# Altium schematic symbol library kmilo17pet-NSC_MiscPower.SchLib: 1552 symbols (part 13 of 43)
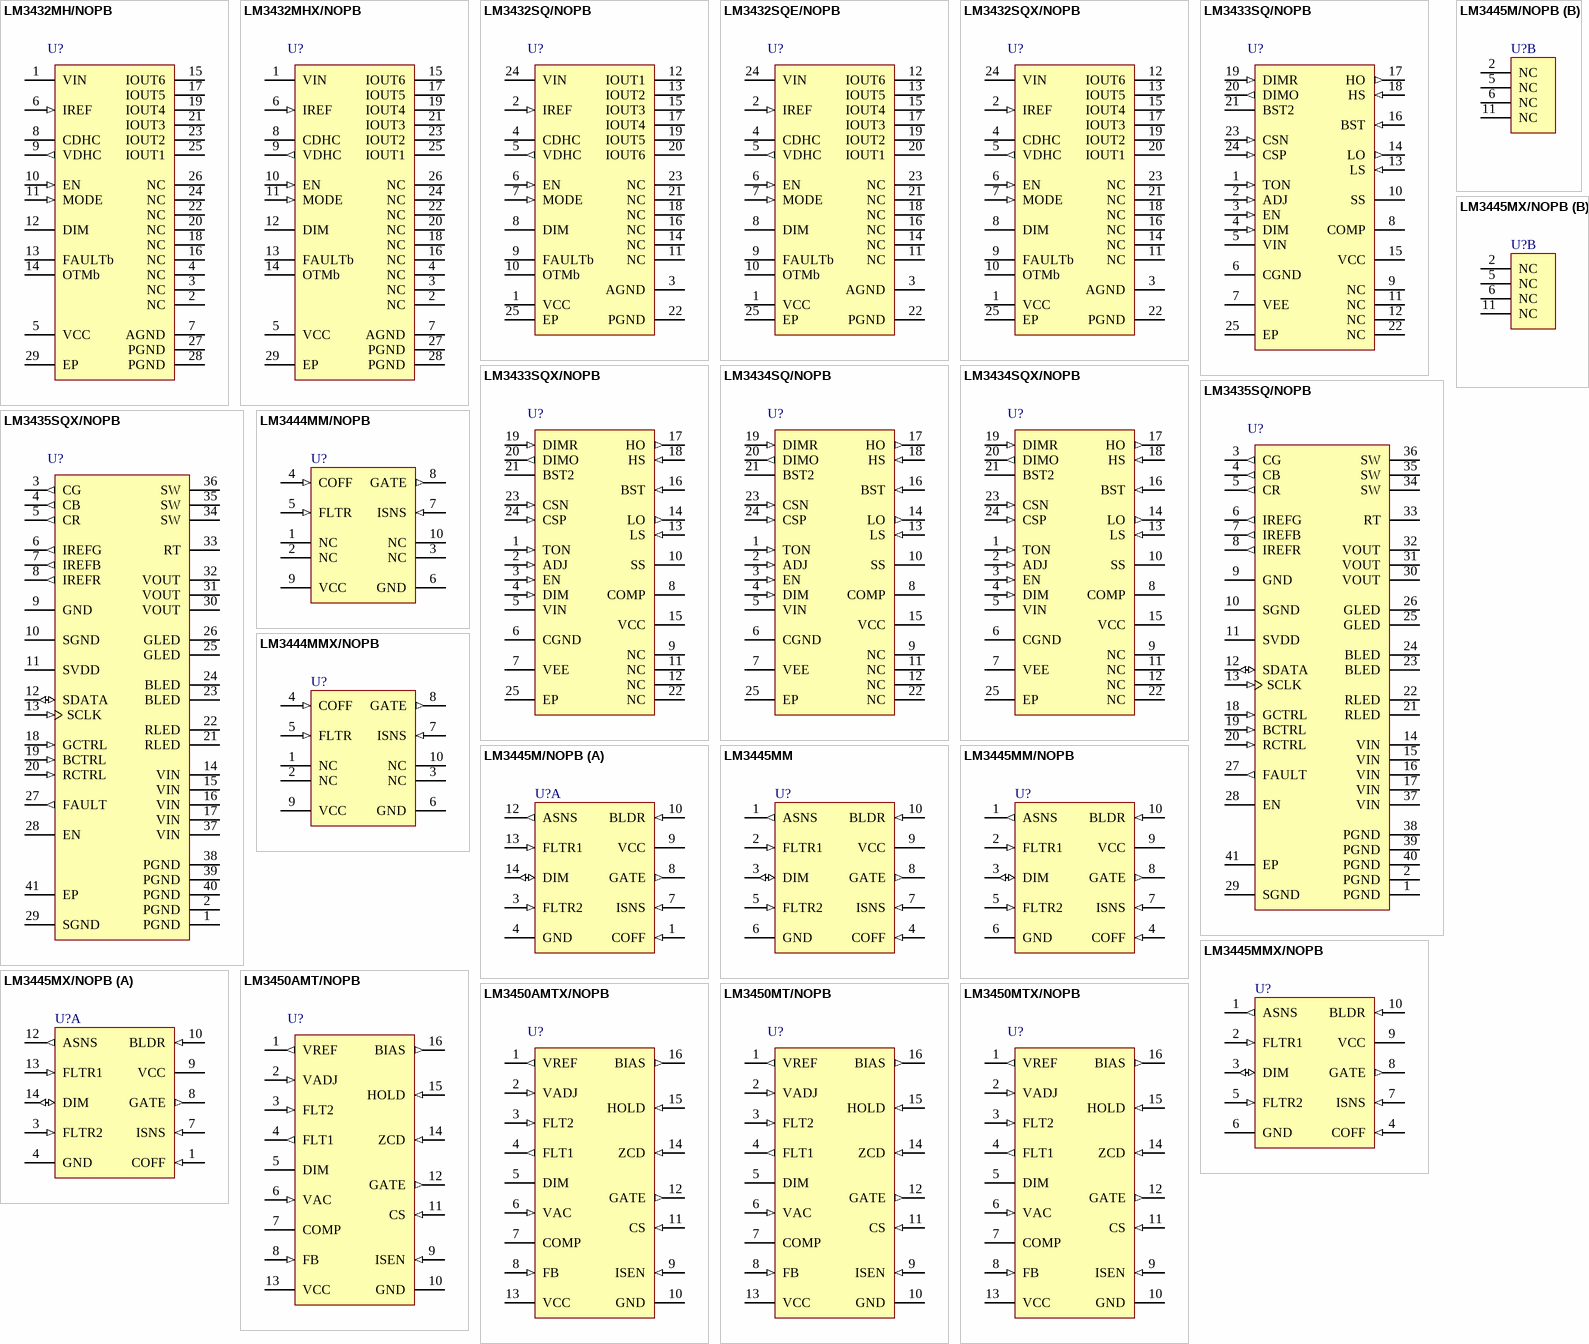
[diagram p69: symbols LM3432MH/NOPB to LM3450MTX/NOPB]

## LM3450AMTX/NOPB
designator U?
LED Drivers with Active Power Factor Correction and Phase Dimming Decoder, 16-pin TSSOP, Pb-Free, 2500 Reel; PartNumber: LM3450AMTX/NOPB; Manufacturer: National Semiconductor; PackageTopMarking: NSUZXYTT*LM3450*AMT; PowerWise: N; CompType: MiscPower; High-Reliability: Y; DatasheetVersion: Jun-2011; PackageVersion: revD, Jun-2003; PackageReference: MTC16; PackageDescription: Molded TSSOP, Jedec, 5 x 4.4 x 0.9mm Body, 16 Lead, 0.65mm Pitch; RoHS: Y; PinCount: 16; Code_JEDEC: MO-153-AB; ComponentLink1Description: Manufacturer URL; ComponentLink1URL: http://www.national.com/; ComponentLink2Description: LM3450 Datasheet; ComponentLink2URL: http://www.national.com/ds/LM/LM3450.pdf; ComponentLink3Description: LM3450 Web Page; ComponentLink3URL: http://www.national.com/pf/LM/LM3450.html; ComponentLink4Description: MTC16 Package Page; ComponentLink4URL: http://www.national.com/packaging/folders/mtc16.html
footprint MTC16_N (TSOP, 16-Leads, Body 5x4.4mm, Pitch 0.65mm, IPC Medium Density)
footprint MTC16_L (TSOP, 16-Leads, Body 5x4.4mm, Pitch 0.65mm, IPC High Density)
footprint MTC16_M (TSOP, 16-Leads, Body 5x4.4mm, Pitch 0.65mm, IPC Low Density)
pins: 1 VREF (out), 2 VADJ (in), 3 FLT2 (in), 4 FLT1 (out), 5 DIM (oc), 6 VAC (in), 7 COMP, 8 FB (in), 9 ISEN (in), 10 GND (power), 11 CS (in), 12 GATE (out), 13 VCC (power), 14 ZCD (in), 15 HOLD (in), 16 BIAS (out)

## LM3450MT/NOPB
designator U?
LED Driver with Active Power Factor Correction and Phase Dimming Decoder, 16-pin TSSOP, 92 Rail; PartNumber: LM3450MT/NOPB; Manufacturer: National Semiconductor; PackageTopMarking: NSUZXYTT*LM3450*MT; PowerWise: Y; CompType: MiscPower; DatasheetVersion: Jun-2011; PackageVersion: revD, Jun-2003; PackageReference: MTC16; PackageDescription: Molded TSSOP, Jedec, 5 x 4.4 x 0.9mm Body, 16 Lead, 0.65mm Pitch; RoHS: Y; PinCount: 16; High-Reliability: Y; Code_JEDEC: MO-153-AB; ComponentLink1Description: Manufacturer URL; ComponentLink1URL: http://www.national.com/; ComponentLink2Description: LM3450 Datasheet; ComponentLink2URL: http://www.national.com/ds/LM/LM3450.pdf; ComponentLink3Description: LM3450 Web Page; ComponentLink3URL: http://www.national.com/pf/LM/LM3450.html; ComponentLink4Description: MTC16 Package Page; ComponentLink4URL: http://www.national.com/packaging/folders/mtc16.html
footprint MTC16_N (TSOP, 16-Leads, Body 5x4.4mm, Pitch 0.65mm, IPC Medium Density)
footprint MTC16_L (TSOP, 16-Leads, Body 5x4.4mm, Pitch 0.65mm, IPC High Density)
footprint MTC16_M (TSOP, 16-Leads, Body 5x4.4mm, Pitch 0.65mm, IPC Low Density)
pins: 1 VREF (out), 2 VADJ (in), 3 FLT2 (in), 4 FLT1 (out), 5 DIM (oc), 6 VAC (in), 7 COMP, 8 FB (in), 9 ISEN (in), 10 GND (power), 11 CS (in), 12 GATE (out), 13 VCC (power), 14 ZCD (in), 15 HOLD (in), 16 BIAS (out)

## LM3450MTX/NOPB
designator U?
LED Driver with Active Power Factor Correction and Phase Dimming Decoder, 16-pin TSSOP, 2500 Reel; PartNumber: LM3450MTX/NOPB; Manufacturer: National Semiconductor; PackageTopMarking: NSUZXYTT*LM3450*MT; PowerWise: Y; CompType: MiscPower; DatasheetVersion: Jun-2011; PackageVersion: revD, Jun-2003; PackageReference: MTC16; PackageDescription: Molded TSSOP, Jedec, 5 x 4.4 x 0.9mm Body, 16 Lead, 0.65mm Pitch; RoHS: Y; PinCount: 16; High-Reliability: Y; Code_JEDEC: MO-153-AB; ComponentLink1Description: Manufacturer URL; ComponentLink1URL: http://www.national.com/; ComponentLink2Description: LM3450 Datasheet; ComponentLink2URL: http://www.national.com/ds/LM/LM3450.pdf; ComponentLink3Description: LM3450 Web Page; ComponentLink3URL: http://www.national.com/pf/LM/LM3450.html; ComponentLink4Description: MTC16 Package Page; ComponentLink4URL: http://www.national.com/packaging/folders/mtc16.html
footprint MTC16_N (TSOP, 16-Leads, Body 5x4.4mm, Pitch 0.65mm, IPC Medium Density)
footprint MTC16_L (TSOP, 16-Leads, Body 5x4.4mm, Pitch 0.65mm, IPC High Density)
footprint MTC16_M (TSOP, 16-Leads, Body 5x4.4mm, Pitch 0.65mm, IPC Low Density)
pins: 1 VREF (out), 2 VADJ (in), 3 FLT2 (in), 4 FLT1 (out), 5 DIM (oc), 6 VAC (in), 7 COMP, 8 FB (in), 9 ISEN (in), 10 GND (power), 11 CS (in), 12 GATE (out), 13 VCC (power), 14 ZCD (in), 15 HOLD (in), 16 BIAS (out)

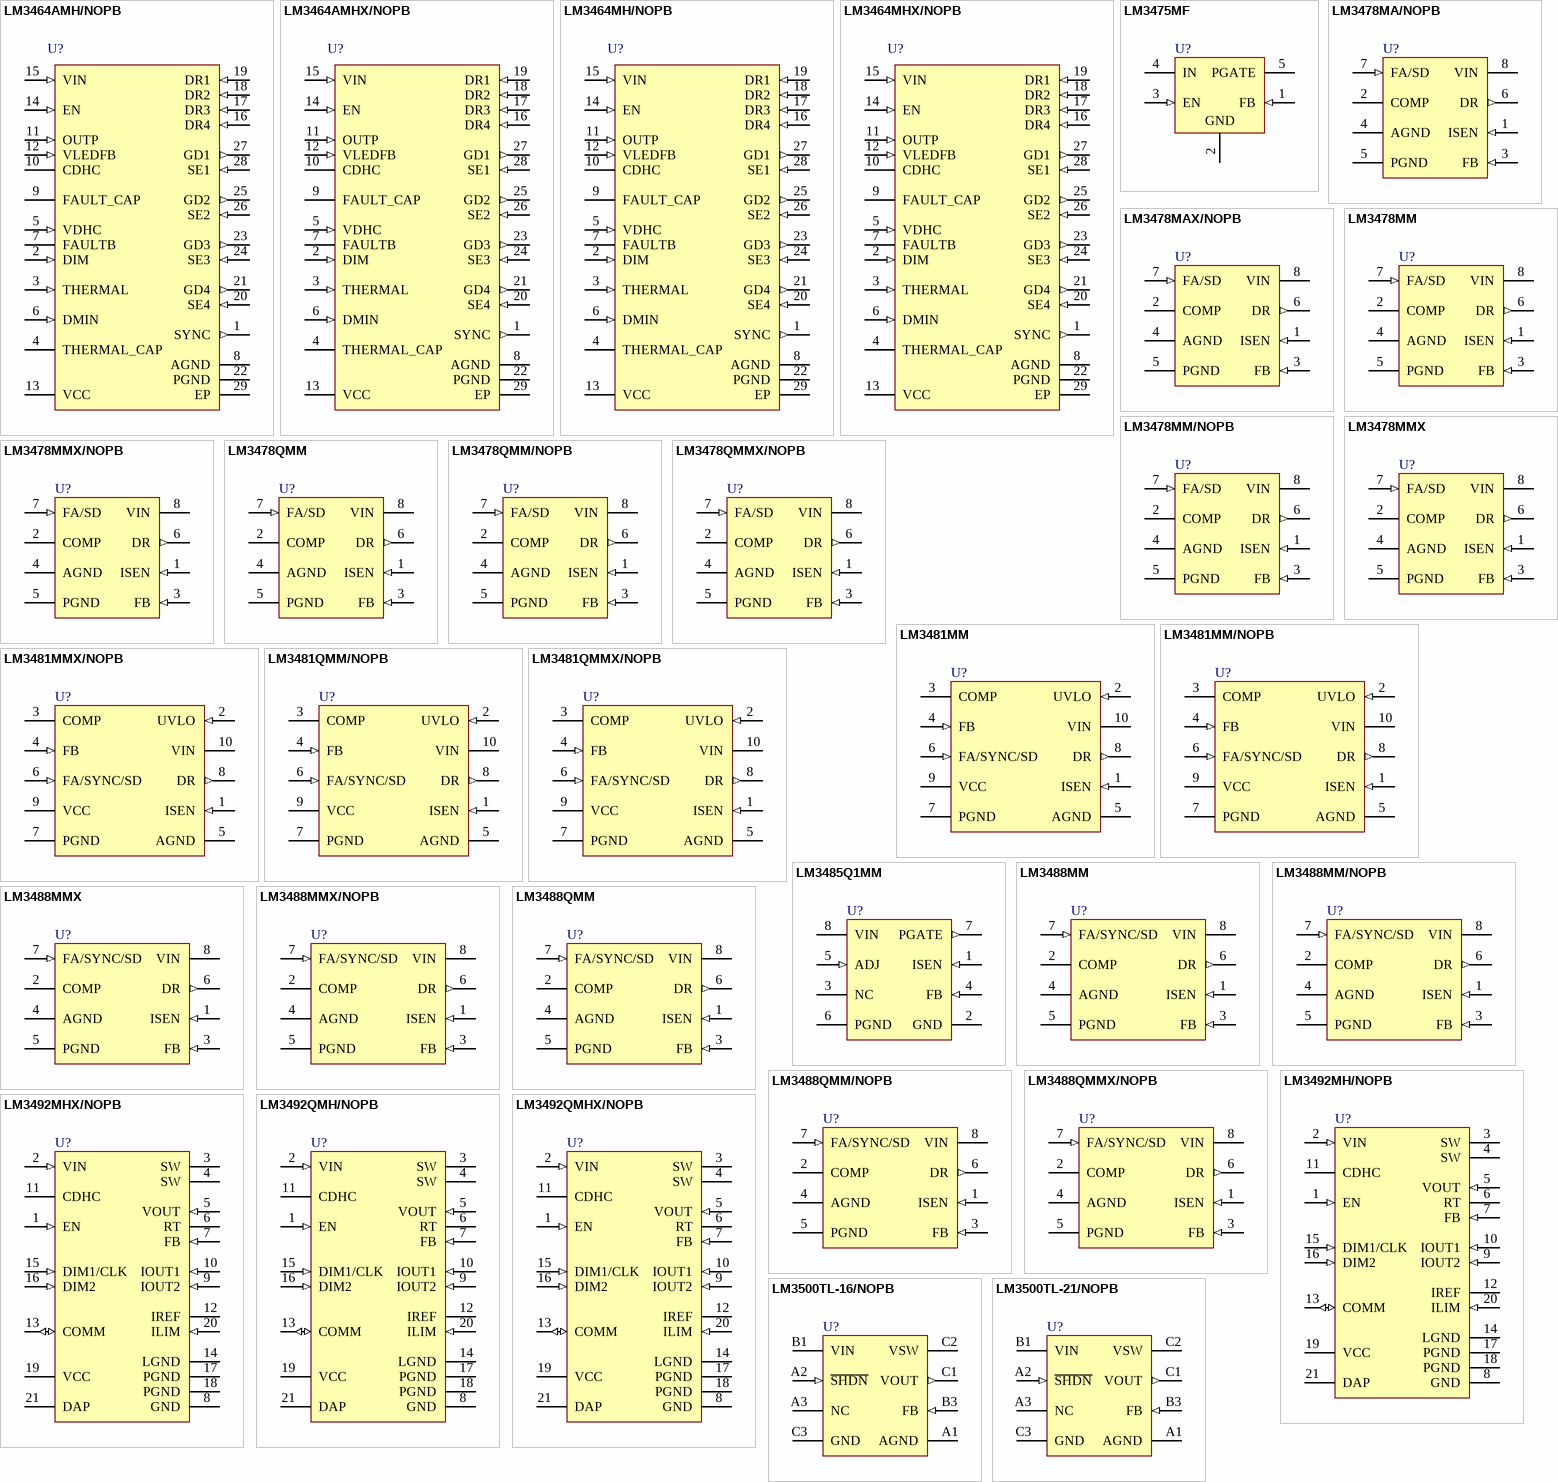
[diagram p14: symbols LM3464AMH/NOPB to LM3500TL-21/NOPB]

## LM3464AMH/NOPB
designator U?
LED Driver with Dynamic Headroom Control and Thermal Control Interfaces, 12-95V input, 28-pin TSSOP-EP, 48 Rail; PartNumber: LM3464AMH/NOPB; Manufacturer: National Semiconductor; PackageTopMarking: NSUZXYTTE#*LM3464AMH; PowerWise: N; CompType: MiscPower; High-Reliability: Y; DatasheetVersion: Jun-2011; PackageVersion: revD, Oct-2003; PackageReference: MXA28A; PackageDescription: Molded TSSOP, Jedec, 9.7 x 4.4 x 0.9mm Body, 28 Lead, 0.65mm Pitch, Exposed Pad; RoHS: Y; PinCount: 28; Code_JEDEC: MO-153-AET; ComponentLink1Description: Manufacturer URL; ComponentLink1URL: http://www.national.com/; ComponentLink2Description: LM3464 Datasheet; ComponentLink2URL: http://www.national.com/ds/LM/LM3464A.pdf; ComponentLink3Description: LM3464 Web Page; ComponentLink3URL: http://www.national.com/pf/LM/LM3464A.html; ComponentLink4Description: MXA28A Package Page; ComponentLink4URL: http://www.national.com/packaging/folders/mxa28a.html
footprint MXA28A_N (TSOP, 28-Leads, Body 9.7x4.4mm, Pitch 0.65mm, Thermal Pad, IPC Medium Density)
footprint MXA28A_L (TSOP, 28-Leads, Body 9.7x4.4mm, Pitch 0.65mm, Thermal Pad, IPC High Density)
footprint MXA28A_M (TSOP, 28-Leads, Body 9.7x4.4mm, Pitch 0.65mm, Thermal Pad, IPC Low Density)
pins: 1 SYNC (out), 2 DIM (in), 3 THERMAL (in), 4 THERMAL_CAP, 5 VDHC (in), 6 DMIN (in), 7 FAULTB (oc), 8 AGND (power), 9 FAULT_CAP, 10 CDHC, 11 OUTP (in), 12 VLEDFB (in), 13 VCC (power), 14 EN (in), 15 VIN (in), 16 DR4 (in), 17 DR3 (in), 18 DR2 (in), 19 DR1 (in), 20 SE4 (in), 21 GD4 (out), 22 PGND (power), 23 GD3 (out), 24 SE3 (in), 25 GD2 (out), 26 SE2 (in), 27 GD1 (out), 28 SE1 (in), 29 EP (power)

## LM3464AMHX/NOPB
designator U?
LED Driver with Dynamic Headroom Control and Thermal Control Interfaces, 12-95V input, 28-pin TSSOP-EP, 2500 Reel; PartNumber: LM3464AMHX/NOPB; Manufacturer: National Semiconductor; PackageTopMarking: NSUZXYTTE#*LM3464AMH; PowerWise: N; CompType: MiscPower; High-Reliability: Y; DatasheetVersion: Jun-2011; PackageVersion: revD, Oct-2003; PackageReference: MXA28A; PackageDescription: Molded TSSOP, Jedec, 9.7 x 4.4 x 0.9mm Body, 28 Lead, 0.65mm Pitch, Exposed Pad; RoHS: Y; PinCount: 28; Code_JEDEC: MO-153-AET; ComponentLink1Description: Manufacturer URL; ComponentLink1URL: http://www.national.com/; ComponentLink2Description: LM3464 Datasheet; ComponentLink2URL: http://www.national.com/ds/LM/LM3464A.pdf; ComponentLink3Description: LM3464 Web Page; ComponentLink3URL: http://www.national.com/pf/LM/LM3464A.html; ComponentLink4Description: MXA28A Package Page; ComponentLink4URL: http://www.national.com/packaging/folders/mxa28a.html
footprint MXA28A_N (TSOP, 28-Leads, Body 9.7x4.4mm, Pitch 0.65mm, Thermal Pad, IPC Medium Density)
footprint MXA28A_L (TSOP, 28-Leads, Body 9.7x4.4mm, Pitch 0.65mm, Thermal Pad, IPC High Density)
footprint MXA28A_M (TSOP, 28-Leads, Body 9.7x4.4mm, Pitch 0.65mm, Thermal Pad, IPC Low Density)
pins: 1 SYNC (out), 2 DIM (in), 3 THERMAL (in), 4 THERMAL_CAP, 5 VDHC (in), 6 DMIN (in), 7 FAULTB (oc), 8 AGND (power), 9 FAULT_CAP, 10 CDHC, 11 OUTP (in), 12 VLEDFB (in), 13 VCC (power), 14 EN (in), 15 VIN (in), 16 DR4 (in), 17 DR3 (in), 18 DR2 (in), 19 DR1 (in), 20 SE4 (in), 21 GD4 (out), 22 PGND (power), 23 GD3 (out), 24 SE3 (in), 25 GD2 (out), 26 SE2 (in), 27 GD1 (out), 28 SE1 (in), 29 EP (power)

## LM3464MH/NOPB
designator U?
LED Driver with Dynamic Headroom Control and Thermal Control Interfaces, 28 pin TSSOP EXP PAD; PartNumber: LM3464MH/NOPB; Manufacturer: National Semiconductor; PackageTopMarking: NSUZXYTTE#*LM3464MH; PowerWise: Y; CompType: MiscPower; DatasheetVersion: Apr-2011; PackageVersion: revD, Oct-2003; PackageReference: MXA28A; PackageDescription: Molded TSSOP, Jedec, 9.7 x 4.4 x 0.9mm Body, 28 Lead, 0.65mm Pitch, Exposed Pad; RoHS: Y; PinCount: 28; High-Reliability: Y; Code_JEDEC: MO-153-AET; ComponentLink1Description: Manufacturer URL; ComponentLink1URL: http://www.national.com/; ComponentLink2Description: LM3464 Datasheet; ComponentLink2URL: http://www.national.com/ds/LM/LM3464.pdf; ComponentLink3Description: LM3464 Web Page; ComponentLink3URL: http://www.national.com/pf/LM/LM3464.html; ComponentLink4Description: MXA28A Package Page; ComponentLink4URL: http://www.national.com/packaging/folders/mxa28a.html
footprint MXA28A_N (TSOP, 28-Leads, Body 9.7x4.4mm, Pitch 0.65mm, Thermal Pad, IPC Medium Density)
footprint MXA28A_L (TSOP, 28-Leads, Body 9.7x4.4mm, Pitch 0.65mm, Thermal Pad, IPC High Density)
footprint MXA28A_M (TSOP, 28-Leads, Body 9.7x4.4mm, Pitch 0.65mm, Thermal Pad, IPC Low Density)
pins: 1 SYNC (out), 2 DIM (in), 3 THERMAL (in), 4 THERMAL_CAP, 5 VDHC (in), 6 DMIN (in), 7 FAULTB (oc), 8 AGND (power), 9 FAULT_CAP, 10 CDHC, 11 OUTP (in), 12 VLEDFB (in), 13 VCC (power), 14 EN (in), 15 VIN (in), 16 DR4 (in), 17 DR3 (in), 18 DR2 (in), 19 DR1 (in), 20 SE4 (in), 21 GD4 (out), 22 PGND (power), 23 GD3 (out), 24 SE3 (in), 25 GD2 (out), 26 SE2 (in), 27 GD1 (out), 28 SE1 (in), 29 EP (power)

## LM3464MHX/NOPB
designator U?
LED Driver with Dynamic Headroom Control and Thermal Control Interfaces, 28 pin TSSOP EXP PAD; PartNumber: LM3464MHX/NOPB; Manufacturer: National Semiconductor; PackageTopMarking: NSUZXYTTE#*LM3464MH; PowerWise: Y; CompType: MiscPower; DatasheetVersion: Apr-2011; PackageVersion: revD, Oct-2003; PackageReference: MXA28A; PackageDescription: Molded TSSOP, Jedec, 9.7 x 4.4 x 0.9mm Body, 28 Lead, 0.65mm Pitch, Exposed Pad; RoHS: Y; PinCount: 28; High-Reliability: Y; Code_JEDEC: MO-153-AET; ComponentLink1Description: Manufacturer URL; ComponentLink1URL: http://www.national.com/; ComponentLink2Description: LM3464 Datasheet; ComponentLink2URL: http://www.national.com/ds/LM/LM3464.pdf; ComponentLink3Description: LM3464 Web Page; ComponentLink3URL: http://www.national.com/pf/LM/LM3464.html; ComponentLink4Description: MXA28A Package Page; ComponentLink4URL: http://www.national.com/packaging/folders/mxa28a.html
footprint MXA28A_N (TSOP, 28-Leads, Body 9.7x4.4mm, Pitch 0.65mm, Thermal Pad, IPC Medium Density)
footprint MXA28A_L (TSOP, 28-Leads, Body 9.7x4.4mm, Pitch 0.65mm, Thermal Pad, IPC High Density)
footprint MXA28A_M (TSOP, 28-Leads, Body 9.7x4.4mm, Pitch 0.65mm, Thermal Pad, IPC Low Density)
pins: 1 SYNC (out), 2 DIM (in), 3 THERMAL (in), 4 THERMAL_CAP, 5 VDHC (in), 6 DMIN (in), 7 FAULTB (oc), 8 AGND (power), 9 FAULT_CAP, 10 CDHC, 11 OUTP (in), 12 VLEDFB (in), 13 VCC (power), 14 EN (in), 15 VIN (in), 16 DR4 (in), 17 DR3 (in), 18 DR2 (in), 19 DR1 (in), 20 SE4 (in), 21 GD4 (out), 22 PGND (power), 23 GD3 (out), 24 SE3 (in), 25 GD2 (out), 26 SE2 (in), 27 GD1 (out), 28 SE1 (in), 29 EP (power)

## LM3475MF
designator U?
Hysteretic PFET Buck Controller, 5-pin SOT-23; PartNumber: LM3475MF; Manufacturer: National Semiconductor; PackageTopMarking: S65B*XTT; PowerWise: N; CompType: MiscPower; High-Reliability: Y; DatasheetVersion: Jan-2005; PackageVersion: revD, Aug-2008; PackageReference: MF05A; PackageDescription: Molded SOT-23, .115 x .063 x .040 in Body, 5 Lead, .0375 in Pitch; RoHS: N; PinCount: 5; ComponentLink1Description: Manufacturer URL; ComponentLink1URL: http://www.national.com/; ComponentLink2Description: LM3475 Datasheet; ComponentLink2URL: http://www.national.com/ds/LM/LM3475.pdf; ComponentLink3Description: LM3475 Web Page; ComponentLink3URL: http://www.national.com/pf/LM/LM3475.html; ComponentLink4Description: MF05A Package Page; ComponentLink4URL: http://www.national.com/packaging/folders/mf05a.html
footprint MF05A_N (SOT23, 5-Leads, Body 2.9x1.6mm, Pitch 0.95mm, Lead Span 2.8mm, IPC Medium Density)
footprint MF05A_L (SOT23, 5-Leads, Body 2.9x1.6mm, Pitch 0.95mm, Lead Span 2.8mm, IPC High Density)
footprint MF05A_M (SOT23, 5-Leads, Body 2.9x1.6mm, Pitch 0.95mm, Lead Span 2.8mm, IPC Low Density)
pins: 1 FB (in), 2 GND (power), 3 EN (in), 4 IN (power), 5 PGATE (power)

## LM3478MA/NOPB
designator U?
High Efficiency Low-Side N-Channel Controller for Switching Regulator, 8-pin Narrow SOIC, 1000 Reel; PartNumber: LM3478MA/NOPB; Manufacturer: National Semiconductor; PackageTopMarking: NSZXTT*L3478*MA; PowerWise: N; CompType: MiscPower; High-Reliability: Y; DatasheetVersion: Oct-2011; PackageVersion: revM, May-2009; PackageReference: M08A; PackageDescription: SOIC Narrow, 4.9 x 3.9 x 1.45mm, 8 Lead, 1.27mm Pitch; RoHS: Y; PinCount: 8; Code_JEDEC: MS-012-AA; Code_IPC: SOIC127P600-8; ComponentLink1Description: Manufacturer URL; ComponentLink1URL: http://www.national.com/; ComponentLink2Description: LM3478 Datasheet; ComponentLink2URL: http://www.national.com/ds/LM/LM3478.pdf; ComponentLink3Description: LM3478 Web Page; ComponentLink3URL: http://www.national.com/pf/LM/LM3478.html; ComponentLink4Description: M08A Package Page; ComponentLink4URL: http://www.national.com/packaging/folders/m08a.html
footprint M08A_N (SOIC, 8-Leads, Body 4.9x3.9mm, Pitch 1.27mm, IPC Medium Density)
footprint M08A_L (SOIC, 8-Leads, Body 4.9x3.9mm, Pitch 1.27mm, IPC High Density)
footprint M08A_M (SOIC, 8-Leads, Body 4.9x3.9mm, Pitch 1.27mm, IPC Low Density)
pins: 1 ISEN (in), 2 COMP, 3 FB (in), 4 AGND (power), 5 PGND (power), 6 DR (out), 7 FA/SD (in), 8 VIN (power)

## LM3478MAX/NOPB
designator U?
High Efficiency Low-Side N-Channel Controller for Switching Regulator, 8-pin Narrow SOIC, 2500 Reel; PartNumber: LM3478MAX/NOPB; Manufacturer: National Semiconductor; PackageTopMarking: NSZXTT*L3478*MA; PowerWise: N; CompType: MiscPower; High-Reliability: Y; DatasheetVersion: Oct-2011; PackageVersion: revM, May-2009; PackageReference: M08A; PackageDescription: SOIC Narrow, 4.9 x 3.9 x 1.45mm, 8 Lead, 1.27mm Pitch; RoHS: Y; PinCount: 8; Code_JEDEC: MS-012-AA; Code_IPC: SOIC127P600-8; ComponentLink1Description: Manufacturer URL; ComponentLink1URL: http://www.national.com/; ComponentLink2Description: LM3478 Datasheet; ComponentLink2URL: http://www.national.com/ds/LM/LM3478.pdf; ComponentLink3Description: LM3478 Web Page; ComponentLink3URL: http://www.national.com/pf/LM/LM3478.html; ComponentLink4Description: M08A Package Page; ComponentLink4URL: http://www.national.com/packaging/folders/m08a.html
footprint M08A_N (SOIC, 8-Leads, Body 4.9x3.9mm, Pitch 1.27mm, IPC Medium Density)
footprint M08A_L (SOIC, 8-Leads, Body 4.9x3.9mm, Pitch 1.27mm, IPC High Density)
footprint M08A_M (SOIC, 8-Leads, Body 4.9x3.9mm, Pitch 1.27mm, IPC Low Density)
pins: 1 ISEN (in), 2 COMP, 3 FB (in), 4 AGND (power), 5 PGND (power), 6 DR (out), 7 FA/SD (in), 8 VIN (power)

## LM3478MM
designator U?
High Efficiency Low-Side N-Channel Controller for Switching Regulator, 8-pin MSOP, 1000 Reel; PartNumber: LM3478MM; Manufacturer: National Semiconductor; PackageTopMarking: ZXTT*S14B; PowerWise: N; CompType: MiscPower; High-Reliability: Y; DatasheetVersion: Oct-2011; PackageVersion: revF, Apr-2008; PackageReference: MUA08A; PackageDescription: MINI SOIC, .118 x .118 x .034in, 8 Lead, .0256in Pitch; RoHS: N; PinCount: 8; Code_JEDEC: MO-187-AA; ComponentLink1Description: Manufacturer URL; ComponentLink1URL: http://www.national.com/; ComponentLink2Description: LM3478 Datasheet; ComponentLink2URL: http://www.national.com/ds/LM/LM3478.pdf; ComponentLink3Description: LM3478 Web Page; ComponentLink3URL: http://www.national.com/pf/LM/LM3478.html; ComponentLink4Description: MUA08A Package Page; ComponentLink4URL: http://www.national.com/packaging/folders/mua08a.html
footprint MUA08A_N (TSOP, 8-Leads, Body 3x3mm, Pitch 0.65mm, IPC Medium Density)
footprint MUA08A_L (TSOP, 8-Leads, Body 3x3mm, Pitch 0.65mm, IPC High Density)
footprint MUA08A_M (TSOP, 8-Leads, Body 3x3mm, Pitch 0.65mm, IPC Low Density)
pins: 1 ISEN (in), 2 COMP, 3 FB (in), 4 AGND (power), 5 PGND (power), 6 DR (out), 7 FA/SD (in), 8 VIN (power)

## LM3478MM/NOPB
designator U?
High Efficiency Low-Side N-Channel Controller for Switching Regulator, 8-pin MSOP, Pb-Free, 1000 Reel; PartNumber: LM3478MM/NOPB; Manufacturer: National Semiconductor; PackageTopMarking: ZXTT*S14B; PowerWise: N; CompType: MiscPower; High-Reliability: Y; DatasheetVersion: Oct-2011; PackageVersion: revF, Apr-2008; PackageReference: MUA08A; PackageDescription: MINI SOIC, .118 x .118 x .034in, 8 Lead, .0256in Pitch; RoHS: Y; PinCount: 8; Code_JEDEC: MO-187-AA; ComponentLink1Description: Manufacturer URL; ComponentLink1URL: http://www.national.com/; ComponentLink2Description: LM3478 Datasheet; ComponentLink2URL: http://www.national.com/ds/LM/LM3478.pdf; ComponentLink3Description: LM3478 Web Page; ComponentLink3URL: http://www.national.com/pf/LM/LM3478.html; ComponentLink4Description: MUA08A Package Page; ComponentLink4URL: http://www.national.com/packaging/folders/mua08a.html
footprint MUA08A_N (TSOP, 8-Leads, Body 3x3mm, Pitch 0.65mm, IPC Medium Density)
footprint MUA08A_L (TSOP, 8-Leads, Body 3x3mm, Pitch 0.65mm, IPC High Density)
footprint MUA08A_M (TSOP, 8-Leads, Body 3x3mm, Pitch 0.65mm, IPC Low Density)
pins: 1 ISEN (in), 2 COMP, 3 FB (in), 4 AGND (power), 5 PGND (power), 6 DR (out), 7 FA/SD (in), 8 VIN (power)

## LM3478MMX
designator U?
High Efficiency Low-Side N-Channel Controller for Switching Regulator, 8-pin MSOP; PartNumber: LM3478MMX; Manufacturer: National Semiconductor; PackageTopMarking: ZXTT*S14B; PowerWise: N; CompType: MiscPower; High-Reliability: Y; DatasheetVersion: Oct-2011; PackageVersion: revF, Apr-2008; PackageReference: MUA08A; PackageDescription: MINI SOIC, .118 x .118 x .034in, 8 Lead, .0256in Pitch; RoHS: N; PinCount: 8; Code_JEDEC: MO-187-AA; ComponentLink1Description: Manufacturer URL; ComponentLink1URL: http://www.national.com/; ComponentLink2Description: LM3478 Datasheet; ComponentLink2URL: http://www.national.com/ds/LM/LM3478.pdf; ComponentLink3Description: LM3478 Web Page; ComponentLink3URL: http://www.national.com/pf/LM/LM3478.html; ComponentLink4Description: MUA08A Package Page; ComponentLink4URL: http://www.national.com/packaging/folders/mua08a.html
footprint MUA08A_N (TSOP, 8-Leads, Body 3x3mm, Pitch 0.65mm, IPC Medium Density)
footprint MUA08A_L (TSOP, 8-Leads, Body 3x3mm, Pitch 0.65mm, IPC High Density)
footprint MUA08A_M (TSOP, 8-Leads, Body 3x3mm, Pitch 0.65mm, IPC Low Density)
pins: 1 ISEN (in), 2 COMP, 3 FB (in), 4 AGND (power), 5 PGND (power), 6 DR (out), 7 FA/SD (in), 8 VIN (power)

## LM3478MMX/NOPB
designator U?
High Efficiency Low-Side N-Channel Controller for Switching Regulator, 8-pin MSOP, 3500 Reel; PartNumber: LM3478MMX/NOPB; Manufacturer: National Semiconductor; PackageTopMarking: ZXTT*S14B; PowerWise: N; CompType: MiscPower; High-Reliability: Y; DatasheetVersion: Oct-2011; PackageVersion: revF, Apr-2008; PackageReference: MUA08A; PackageDescription: MINI SOIC, .118 x .118 x .034in, 8 Lead, .0256in Pitch; RoHS: Y; PinCount: 8; Code_JEDEC: MO-187-AA; ComponentLink1Description: Manufacturer URL; ComponentLink1URL: http://www.national.com/; ComponentLink2Description: LM3478 Datasheet; ComponentLink2URL: http://www.national.com/ds/LM/LM3478.pdf; ComponentLink3Description: LM3478 Web Page; ComponentLink3URL: http://www.national.com/pf/LM/LM3478.html; ComponentLink4Description: MUA08A Package Page; ComponentLink4URL: http://www.national.com/packaging/folders/mua08a.html
footprint MUA08A_N (TSOP, 8-Leads, Body 3x3mm, Pitch 0.65mm, IPC Medium Density)
footprint MUA08A_L (TSOP, 8-Leads, Body 3x3mm, Pitch 0.65mm, IPC High Density)
footprint MUA08A_M (TSOP, 8-Leads, Body 3x3mm, Pitch 0.65mm, IPC Low Density)
pins: 1 ISEN (in), 2 COMP, 3 FB (in), 4 AGND (power), 5 PGND (power), 6 DR (out), 7 FA/SD (in), 8 VIN (power)

## LM3478QMM
designator U?
High Efficiency Low-Side N-Channel Controller for Switching Regulator, Automotive Grade 1, 8-pin MSOP; PartNumber: LM3478QMM; Manufacturer: National Semiconductor; PackageTopMarking: ZXTT*SSFB; PowerWise: N; CompType: MiscPower; High-Reliability: Y; DatasheetVersion: Oct-2011; PackageVersion: revF, Apr-2008; PackageReference: MUA08A; PackageDescription: MINI SOIC, .118 x .118 x .034in, 8 Lead, .0256in Pitch; RoHS: Y; PinCount: 8; Code_JEDEC: MO-187-AA; ComponentLink1Description: Manufacturer URL; ComponentLink1URL: http://www.national.com/; ComponentLink2Description: LM3478 Datasheet; ComponentLink2URL: http://www.national.com/ds/LM/LM3478.pdf; ComponentLink3Description: LM3478 Web Page; ComponentLink3URL: http://www.national.com/mpf/LM/LM3478Q.html; ComponentLink4Description: MUA08A Package Page; ComponentLink4URL: http://www.national.com/packaging/folders/mua08a.html
footprint MUA08A_N (TSOP, 8-Leads, Body 3x3mm, Pitch 0.65mm, IPC Medium Density)
footprint MUA08A_L (TSOP, 8-Leads, Body 3x3mm, Pitch 0.65mm, IPC High Density)
footprint MUA08A_M (TSOP, 8-Leads, Body 3x3mm, Pitch 0.65mm, IPC Low Density)
pins: 1 ISEN (in), 2 COMP, 3 FB (in), 4 AGND (power), 5 PGND (power), 6 DR (out), 7 FA/SD (in), 8 VIN (power)

## LM3478QMM/NOPB
designator U?
High Efficiency Low-Side N-Channel Controller for Switching Regulator, Automotive Grade 1, 8-pin MSOP, Pb-Free, 1000 Reel; PartNumber: LM3478QMM/NOPB; Manufacturer: National Semiconductor; PackageTopMarking: ZXTT*SSFB; PowerWise: N; CompType: MiscPower; High-Reliability: Y; DatasheetVersion: Oct-2011; PackageVersion: revF, Apr-2008; PackageReference: MUA08A; PackageDescription: MINI SOIC, .118 x .118 x .034in, 8 Lead, .0256in Pitch; RoHS: Y; PinCount: 8; Code_JEDEC: MO-187-AA; ComponentLink1Description: Manufacturer URL; ComponentLink1URL: http://www.national.com/; ComponentLink2Description: LM3478 Datasheet; ComponentLink2URL: http://www.national.com/ds/LM/LM3478.pdf; ComponentLink3Description: LM3478Q Web Page; ComponentLink3URL: http://www.national.com/pf/LM/LM3478Q.html; ComponentLink4Description: MUA08A Package Page; ComponentLink4URL: http://www.national.com/packaging/folders/mua08a.html
footprint MUA08A_N (TSOP, 8-Leads, Body 3x3mm, Pitch 0.65mm, IPC Medium Density)
footprint MUA08A_L (TSOP, 8-Leads, Body 3x3mm, Pitch 0.65mm, IPC High Density)
footprint MUA08A_M (TSOP, 8-Leads, Body 3x3mm, Pitch 0.65mm, IPC Low Density)
pins: 1 ISEN (in), 2 COMP, 3 FB (in), 4 AGND (power), 5 PGND (power), 6 DR (out), 7 FA/SD (in), 8 VIN (power)

## LM3478QMMX/NOPB
designator U?
High Efficiency Low-Side N-Channel Controller for Switching Regulator, Automotive Grade 1, 8-pin MSOP, Pb-Free, 3500 Reel; PartNumber: LM3478QMMX/NOPB; Manufacturer: National Semiconductor; PackageTopMarking: ZXTT*SSFB; PowerWise: N; CompType: MiscPower; High-Reliability: Y; DatasheetVersion: Oct-2011; PackageVersion: revF, Apr-2008; PackageReference: MUA08A; PackageDescription: MINI SOIC, .118 x .118 x .034in, 8 Lead, .0256in Pitch; RoHS: Y; PinCount: 8; Code_JEDEC: MO-187-AA; ComponentLink1Description: Manufacturer URL; ComponentLink1URL: http://www.national.com/; ComponentLink2Description: LM3478 Datasheet; ComponentLink2URL: http://www.national.com/ds/LM/LM3478.pdf; ComponentLink3Description: LM3478Q Web Page; ComponentLink3URL: http://www.national.com/pf/LM/LM3478Q.html; ComponentLink4Description: MUA08A Package Page; ComponentLink4URL: http://www.national.com/packaging/folders/mua08a.html
footprint MUA08A_N (TSOP, 8-Leads, Body 3x3mm, Pitch 0.65mm, IPC Medium Density)
footprint MUA08A_L (TSOP, 8-Leads, Body 3x3mm, Pitch 0.65mm, IPC High Density)
footprint MUA08A_M (TSOP, 8-Leads, Body 3x3mm, Pitch 0.65mm, IPC Low Density)
pins: 1 ISEN (in), 2 COMP, 3 FB (in), 4 AGND (power), 5 PGND (power), 6 DR (out), 7 FA/SD (in), 8 VIN (power)

## LM3481MM
designator U?
High Efficiency Low-Side N-Channel Controller for Switching Regulators, 10-pin MSOP; PartNumber: LM3481MM; Manufacturer: National Semiconductor; PackageTopMarking: ZXTT*SJPB; PowerWise: N; CompType: MiscPower; High-Reliability: Y; DatasheetVersion: Mar-2011; PackageVersion: revB, Jul-2003; PackageReference: MUB10A; PackageDescription: Mini-SO, Molded, .118 x .118 x .034in Body, 10 Lead, .0197in Pitch; RoHS: Y; PinCount: 10; Code_JEDEC: MO-187-BA; ComponentLink1Description: Manufacturer URL; ComponentLink1URL: http://www.national.com/; ComponentLink2Description: LM3481 Datasheet; ComponentLink2URL: http://www.national.com/ds/LM/LM3481.pdf; ComponentLink3Description: LM3481 Web Page; ComponentLink3URL: http://www.national.com/pf/LM/LM3481.html; ComponentLink4Description: MUB10A Package Page; ComponentLink4URL: http://www.national.com/packaging/folders/mub10a.html
footprint MUB10A_N (TSSOP, 10-Leads, Body 3x3mm, Pitch 0.5mm, IPC Medium Density)
footprint MUB10A_L (TSSOP, 10-Leads, Body 3x3mm, Pitch 0.5mm, IPC High Density)
footprint MUB10A_M (TSSOP, 10-Leads, Body 3x3mm, Pitch 0.5mm, IPC Low Density)
pins: 1 ISEN (in), 2 UVLO (in), 3 COMP, 4 FB (in), 5 AGND (power), 6 FA/SYNC/SD (in), 7 PGND (power), 8 DR (out), 9 VCC (power), 10 VIN (power)

## LM3481MM/NOPB
designator U?
High Efficiency Low-Side N-Channel Controller for Switching Regulators, 10-pin MSOP, Pb-Free; PartNumber: LM3481MM/NOPB; Manufacturer: National Semiconductor; PackageTopMarking: ZXTT*SJPB; PowerWise: N; CompType: MiscPower; High-Reliability: Y; DatasheetVersion: Mar-2011; PackageVersion: revB, Jul-2003; PackageReference: MUB10A; PackageDescription: Mini-SO, Molded, .118 x .118 x .034in Body, 10 Lead, .0197in Pitch; RoHS: Y; PinCount: 10; Code_JEDEC: MO-187-BA; ComponentLink1Description: Manufacturer URL; ComponentLink1URL: http://www.national.com/; ComponentLink2Description: LM3481 Datasheet; ComponentLink2URL: http://www.national.com/ds/LM/LM3481.pdf; ComponentLink3Description: LM3481 Web Page; ComponentLink3URL: http://www.national.com/pf/LM/LM3481.html; ComponentLink4Description: MUB10A Package Page; ComponentLink4URL: http://www.national.com/packaging/folders/mub10a.html
footprint MUB10A_N (TSSOP, 10-Leads, Body 3x3mm, Pitch 0.5mm, IPC Medium Density)
footprint MUB10A_L (TSSOP, 10-Leads, Body 3x3mm, Pitch 0.5mm, IPC High Density)
footprint MUB10A_M (TSSOP, 10-Leads, Body 3x3mm, Pitch 0.5mm, IPC Low Density)
pins: 1 ISEN (in), 2 UVLO (in), 3 COMP, 4 FB (in), 5 AGND (power), 6 FA/SYNC/SD (in), 7 PGND (power), 8 DR (out), 9 VCC (power), 10 VIN (power)

## LM3481MMX/NOPB
designator U?
High Efficiency Low-Side N-Channel Controller for Switching Regulators, 10-pin MSOP, Pb-Free; PartNumber: LM3481MMX/NOPB; Manufacturer: National Semiconductor; PackageTopMarking: ZXTT*SJPB; PowerWise: N; CompType: MiscPower; High-Reliability: Y; DatasheetVersion: Mar-2011; PackageVersion: revB, Jul-2003; PackageReference: MUB10A; PackageDescription: Mini-SO, Molded, .118 x .118 x .034in Body, 10 Lead, .0197in Pitch; RoHS: Y; PinCount: 10; Code_JEDEC: MO-187-BA; ComponentLink1Description: Manufacturer URL; ComponentLink1URL: http://www.national.com/; ComponentLink2Description: LM3481 Datasheet; ComponentLink2URL: http://www.national.com/ds/LM/LM3481.pdf; ComponentLink3Description: LM3481 Web Page; ComponentLink3URL: http://www.national.com/pf/LM/LM3481.html; ComponentLink4Description: MUB10A Package Page; ComponentLink4URL: http://www.national.com/packaging/folders/mub10a.html
footprint MUB10A_N (TSSOP, 10-Leads, Body 3x3mm, Pitch 0.5mm, IPC Medium Density)
footprint MUB10A_L (TSSOP, 10-Leads, Body 3x3mm, Pitch 0.5mm, IPC High Density)
footprint MUB10A_M (TSSOP, 10-Leads, Body 3x3mm, Pitch 0.5mm, IPC Low Density)
pins: 1 ISEN (in), 2 UVLO (in), 3 COMP, 4 FB (in), 5 AGND (power), 6 FA/SYNC/SD (in), 7 PGND (power), 8 DR (out), 9 VCC (power), 10 VIN (power)

## LM3481QMM/NOPB
designator U?
High Efficiency Low-Side N-Channel Controller for Switching Regulators, AEC-Q100 Grade 1, 10-pin Mini SOIC, 1000 Reel; PartNumber: LM3481QMM/NOPB; Manufacturer: National Semiconductor; PackageTopMarking: ZXTT*SUAB; PowerWise: N; CompType: MiscPower; High-Reliability: Y; DatasheetVersion: Mar-2011; PackageVersion: revB, Jul-2003; PackageReference: MUB10A; PackageDescription: Mini-SO, Molded, .118 x .118 x .034in Body, 10 Lead, .0197in Pitch; RoHS: Y; PinCount: 10; Code_JEDEC: MO-187-BA; ComponentLink1Description: Manufacturer URL; ComponentLink1URL: http://www.national.com/; ComponentLink2Description: LM3481 Datasheet; ComponentLink2URL: http://www.national.com/ds/LM/LM3481.pdf; ComponentLink3Description: LM3481 Web Page; ComponentLink3URL: http://www.national.com/pf/LM/LM3481.html; ComponentLink4Description: MUB10A Package Page; ComponentLink4URL: http://www.national.com/packaging/folders/mub10a.html
footprint MUB10A_N (TSSOP, 10-Leads, Body 3x3mm, Pitch 0.5mm, IPC Medium Density)
footprint MUB10A_L (TSSOP, 10-Leads, Body 3x3mm, Pitch 0.5mm, IPC High Density)
footprint MUB10A_M (TSSOP, 10-Leads, Body 3x3mm, Pitch 0.5mm, IPC Low Density)
pins: 1 ISEN (in), 2 UVLO (in), 3 COMP, 4 FB (in), 5 AGND (power), 6 FA/SYNC/SD (in), 7 PGND (power), 8 DR (out), 9 VCC (power), 10 VIN (power)

## LM3481QMMX/NOPB
designator U?
High Efficiency Low-Side N-Channel Controller for Switching Regulators, AEC-Q100 Grade 1, 10-pin Mini SOIC, 3500 Reel; PartNumber: LM3481QMMX/NOPB; Manufacturer: National Semiconductor; PackageTopMarking: ZXTT*SUAB; PowerWise: N; CompType: MiscPower; High-Reliability: Y; DatasheetVersion: Mar-2011; PackageVersion: revB, Jul-2003; PackageReference: MUB10A; PackageDescription: Mini-SO, Molded, .118 x .118 x .034in Body, 10 Lead, .0197in Pitch; RoHS: Y; PinCount: 10; Code_JEDEC: MO-187-BA; ComponentLink1Description: Manufacturer URL; ComponentLink1URL: http://www.national.com/; ComponentLink2Description: LM3481 Datasheet; ComponentLink2URL: http://www.national.com/ds/LM/LM3481.pdf; ComponentLink3Description: LM3481 Web Page; ComponentLink3URL: http://www.national.com/pf/LM/LM3481.html; ComponentLink4Description: MUB10A Package Page; ComponentLink4URL: http://www.national.com/packaging/folders/mub10a.html
footprint MUB10A_N (TSSOP, 10-Leads, Body 3x3mm, Pitch 0.5mm, IPC Medium Density)
footprint MUB10A_L (TSSOP, 10-Leads, Body 3x3mm, Pitch 0.5mm, IPC High Density)
footprint MUB10A_M (TSSOP, 10-Leads, Body 3x3mm, Pitch 0.5mm, IPC Low Density)
pins: 1 ISEN (in), 2 UVLO (in), 3 COMP, 4 FB (in), 5 AGND (power), 6 FA/SYNC/SD (in), 7 PGND (power), 8 DR (out), 9 VCC (power), 10 VIN (power)

## LM3485Q1MM
designator U?
Hysteretic PFET Buck Controller, Automotive Grade 1, 8-pin MSOP; PartNumber: LM3485Q1MM; Manufacturer: National Semiconductor; PackageTopMarking: ZXTT*SVJB; PowerWise: N; CompType: MiscPower; High-Reliability: Y; DatasheetVersion: Sep-2009; PackageVersion: revF, Apr-2008; PackageReference: MUA08A; PackageDescription: MINI SOIC, .118 x .118 x .034in, 8 Lead, .0256in Pitch; RoHS: Y; PinCount: 8; Code_JEDEC: MO-187-AA; ComponentLink1Description: Manufacturer URL; ComponentLink1URL: http://www.national.com/; ComponentLink2Description: LM3485 Datasheet; ComponentLink2URL: http://www.national.com/ds/LM/LM3485.pdf; ComponentLink3Description: LM3485 Web Page; ComponentLink3URL: http://www.national.com/mpf/LM/LM3485.html; ComponentLink4Description: MUA08A Package Page; ComponentLink4URL: http://www.national.com/packaging/folders/mua08a.html
footprint MUA08A_N (TSOP, 8-Leads, Body 3x3mm, Pitch 0.65mm, IPC Medium Density)
footprint MUA08A_L (TSOP, 8-Leads, Body 3x3mm, Pitch 0.65mm, IPC High Density)
footprint MUA08A_M (TSOP, 8-Leads, Body 3x3mm, Pitch 0.65mm, IPC Low Density)
pins: 1 ISEN (in), 2 GND (power), 3 NC, 4 FB (in), 5 ADJ (in), 6 PGND (power), 7 PGATE (out), 8 VIN (power)

## LM3488MM
designator U?
High Efficiency Low-Side N-Channel Controller for Switching Regulator, 8-pin MSOP; PartNumber: LM3488MM; Manufacturer: National Semiconductor; PackageTopMarking: ZXTT*S21B; PowerWise: N; CompType: MiscPower; High-Reliability: Y; DatasheetVersion: Oct-2011; PackageVersion: revF, Apr-2008; PackageReference: MUA08A; PackageDescription: MINI SOIC, .118 x .118 x .034in, 8 Lead, .0256in Pitch; RoHS: N; PinCount: 8; Code_JEDEC: MO-187-AA; ComponentLink1Description: Manufacturer URL; ComponentLink1URL: http://www.national.com/; ComponentLink2Description: LM3488 Datasheet; ComponentLink2URL: http://www.national.com/ds/LM/LM3488.pdf; ComponentLink3Description: LM3488 Web Page; ComponentLink3URL: http://www.national.com/pf/LM/LM3488.html; ComponentLink4Description: MUA08A Package Page; ComponentLink4URL: http://www.national.com/packaging/folders/mua08a.html
footprint MUA08A_N (TSOP, 8-Leads, Body 3x3mm, Pitch 0.65mm, IPC Medium Density)
footprint MUA08A_L (TSOP, 8-Leads, Body 3x3mm, Pitch 0.65mm, IPC High Density)
footprint MUA08A_M (TSOP, 8-Leads, Body 3x3mm, Pitch 0.65mm, IPC Low Density)
pins: 1 ISEN (in), 2 COMP, 3 FB (in), 4 AGND (power), 5 PGND (power), 6 DR (out), 7 FA/SYNC/SD (in), 8 VIN (power)

## LM3488MM/NOPB
designator U?
High Efficiency Low-Side N-Channel Controller for Switching Regulators, 8-pin MSOP, Pb-Free, 1000 Reel; PartNumber: LM3488MM/NOPB; Manufacturer: National Semiconductor; PackageTopMarking: ZXTT*S21B; PowerWise: N; CompType: MiscPower; High-Reliability: Y; DatasheetVersion: Oct-2011; PackageVersion: revF, Apr-2008; PackageReference: MUA08A; PackageDescription: MINI SOIC, .118 x .118 x .034in, 8 Lead, .0256in Pitch; RoHS: Y; PinCount: 8; Code_JEDEC: MO-187-AA; ComponentLink1Description: Manufacturer URL; ComponentLink1URL: http://www.national.com/; ComponentLink2Description: LM3488 Datasheet; ComponentLink2URL: http://www.national.com/ds/LM/LM3488.pdf; ComponentLink3Description: LM3488 Web Page; ComponentLink3URL: http://www.national.com/pf/LM/LM3488.html; ComponentLink4Description: MUA08A Package Page; ComponentLink4URL: http://www.national.com/packaging/folders/mua08a.html
footprint MUA08A_N (TSOP, 8-Leads, Body 3x3mm, Pitch 0.65mm, IPC Medium Density)
footprint MUA08A_L (TSOP, 8-Leads, Body 3x3mm, Pitch 0.65mm, IPC High Density)
footprint MUA08A_M (TSOP, 8-Leads, Body 3x3mm, Pitch 0.65mm, IPC Low Density)
pins: 1 ISEN (in), 2 COMP, 3 FB (in), 4 AGND (power), 5 PGND (power), 6 DR (out), 7 FA/SYNC/SD (in), 8 VIN (power)

## LM3488MMX
designator U?
High Efficiency Low-Side N-Channel Controller for Switching Regulators, 8-pin MSOP, 3500 Reel; PartNumber: LM3488MMX; Manufacturer: National Semiconductor; PackageTopMarking: ZXTT*S21B; PowerWise: N; CompType: MiscPower; High-Reliability: Y; DatasheetVersion: Oct-2011; PackageVersion: revF, Apr-2008; PackageReference: MUA08A; PackageDescription: MINI SOIC, .118 x .118 x .034in, 8 Lead, .0256in Pitch; RoHS: N; PinCount: 8; Code_JEDEC: MO-187-AA; ComponentLink1Description: Manufacturer URL; ComponentLink1URL: http://www.national.com/; ComponentLink2Description: LM3488 Datasheet; ComponentLink2URL: http://www.national.com/ds/LM/LM3488.pdf; ComponentLink3Description: LM3488 Web Page; ComponentLink3URL: http://www.national.com/pf/LM/LM3488.html; ComponentLink4Description: MUA08A Package Page; ComponentLink4URL: http://www.national.com/packaging/folders/mua08a.html
footprint MUA08A_N (TSOP, 8-Leads, Body 3x3mm, Pitch 0.65mm, IPC Medium Density)
footprint MUA08A_L (TSOP, 8-Leads, Body 3x3mm, Pitch 0.65mm, IPC High Density)
footprint MUA08A_M (TSOP, 8-Leads, Body 3x3mm, Pitch 0.65mm, IPC Low Density)
pins: 1 ISEN (in), 2 COMP, 3 FB (in), 4 AGND (power), 5 PGND (power), 6 DR (out), 7 FA/SYNC/SD (in), 8 VIN (power)

## LM3488MMX/NOPB
designator U?
High Efficiency Low-Side N-Channel Controller for Switching Regulators, 8-pin MSOP, 3500 Reel; PartNumber: LM3488MMX/NOPB; Manufacturer: National Semiconductor; PackageTopMarking: ZXTT*S21B; PowerWise: N; CompType: MiscPower; High-Reliability: Y; DatasheetVersion: Oct-2011; PackageVersion: revF, Apr-2008; PackageReference: MUA08A; PackageDescription: MINI SOIC, .118 x .118 x .034in, 8 Lead, .0256in Pitch; RoHS: Y; PinCount: 8; Code_JEDEC: MO-187-AA; ComponentLink1Description: Manufacturer URL; ComponentLink1URL: http://www.national.com/; ComponentLink2Description: LM3488 Datasheet; ComponentLink2URL: http://www.national.com/ds/LM/LM3488.pdf; ComponentLink3Description: LM3488 Web Page; ComponentLink3URL: http://www.national.com/pf/LM/LM3488.html; ComponentLink4Description: MUA08A Package Page; ComponentLink4URL: http://www.national.com/packaging/folders/mua08a.html
footprint MUA08A_N (TSOP, 8-Leads, Body 3x3mm, Pitch 0.65mm, IPC Medium Density)
footprint MUA08A_L (TSOP, 8-Leads, Body 3x3mm, Pitch 0.65mm, IPC High Density)
footprint MUA08A_M (TSOP, 8-Leads, Body 3x3mm, Pitch 0.65mm, IPC Low Density)
pins: 1 ISEN (in), 2 COMP, 3 FB (in), 4 AGND (power), 5 PGND (power), 6 DR (out), 7 FA/SYNC/SD (in), 8 VIN (power)

## LM3488QMM
designator U?
High Efficiency Low-Side N-Channel Controller for Switching Regulator, Automotive Grade 1, 8-pin MSOP; PartNumber: LM3488QMM; Manufacturer: National Semiconductor; PackageTopMarking: ZXTT*SSKB; PowerWise: N; CompType: MiscPower; High-Reliability: Y; DatasheetVersion: Oct-2011; PackageVersion: revF, Apr-2008; PackageReference: MUA08A; PackageDescription: MINI SOIC, .118 x .118 x .034in, 8 Lead, .0256in Pitch; RoHS: Y; PinCount: 8; Code_JEDEC: MO-187-AA; ComponentLink1Description: Manufacturer URL; ComponentLink1URL: http://www.national.com/; ComponentLink2Description: LM3488 Datasheet; ComponentLink2URL: http://www.national.com/ds/LM/LM3488.pdf; ComponentLink3Description: LM3488Q Web Page; ComponentLink3URL: http://www.national.com/mpf/LM/LM3488Q.html; ComponentLink4Description: MUA08A Package Page; ComponentLink4URL: http://www.national.com/packaging/folders/mua08a.html
footprint MUA08A_N (TSOP, 8-Leads, Body 3x3mm, Pitch 0.65mm, IPC Medium Density)
footprint MUA08A_L (TSOP, 8-Leads, Body 3x3mm, Pitch 0.65mm, IPC High Density)
footprint MUA08A_M (TSOP, 8-Leads, Body 3x3mm, Pitch 0.65mm, IPC Low Density)
pins: 1 ISEN (in), 2 COMP, 3 FB (in), 4 AGND (power), 5 PGND (power), 6 DR (out), 7 FA/SYNC/SD (in), 8 VIN (power)

## LM3488QMM/NOPB
designator U?
High Efficiency Low-Side N-Channel Controller for Switching Regulators, Automotive Grade 1, 8-pin MSOP, Pb-Free, 1000 Reel; PartNumber: LM3488QMM/NOPB; Manufacturer: National Semiconductor; PackageTopMarking: ZXTT*SSKB; PowerWise: N; CompType: MiscPower; High-Reliability: Y; DatasheetVersion: Oct-2011; PackageVersion: revF, Apr-2008; PackageReference: MUA08A; PackageDescription: MINI SOIC, .118 x .118 x .034in, 8 Lead, .0256in Pitch; RoHS: Y; PinCount: 8; Code_JEDEC: MO-187-AA; ComponentLink1Description: Manufacturer URL; ComponentLink1URL: http://www.national.com/; ComponentLink2Description: LM3488 Datasheet; ComponentLink2URL: http://www.national.com/ds/LM/LM3488.pdf; ComponentLink3Description: LM3488Q Web Page; ComponentLink3URL: http://www.national.com/pf/LM/LM3488Q.html; ComponentLink4Description: MUA08A Package Page; ComponentLink4URL: http://www.national.com/packaging/folders/mua08a.html
footprint MUA08A_N (TSOP, 8-Leads, Body 3x3mm, Pitch 0.65mm, IPC Medium Density)
footprint MUA08A_L (TSOP, 8-Leads, Body 3x3mm, Pitch 0.65mm, IPC High Density)
footprint MUA08A_M (TSOP, 8-Leads, Body 3x3mm, Pitch 0.65mm, IPC Low Density)
pins: 1 ISEN (in), 2 COMP, 3 FB (in), 4 AGND (power), 5 PGND (power), 6 DR (out), 7 FA/SYNC/SD (in), 8 VIN (power)

## LM3488QMMX/NOPB
designator U?
High Efficiency Low-Side N-Channel Controller for Switching Regulators, Automotive Grade 1, 8-pin MSOP, Pb-Free, 3500 Reel; PartNumber: LM3488QMMX/NOPB; Manufacturer: National Semiconductor; PackageTopMarking: ZXTT*SSKB; PowerWise: N; CompType: MiscPower; High-Reliability: Y; DatasheetVersion: Oct-2011; PackageVersion: revF, Apr-2008; PackageReference: MUA08A; PackageDescription: MINI SOIC, .118 x .118 x .034in, 8 Lead, .0256in Pitch; RoHS: Y; PinCount: 8; Code_JEDEC: MO-187-AA; ComponentLink1Description: Manufacturer URL; ComponentLink1URL: http://www.national.com/; ComponentLink2Description: LM3488 Datasheet; ComponentLink2URL: http://www.national.com/ds/LM/LM3488.pdf; ComponentLink3Description: LM3488Q Web Page; ComponentLink3URL: http://www.national.com/pf/LM/LM3488Q.html; ComponentLink4Description: MUA08A Package Page; ComponentLink4URL: http://www.national.com/packaging/folders/mua08a.html
footprint MUA08A_N (TSOP, 8-Leads, Body 3x3mm, Pitch 0.65mm, IPC Medium Density)
footprint MUA08A_L (TSOP, 8-Leads, Body 3x3mm, Pitch 0.65mm, IPC High Density)
footprint MUA08A_M (TSOP, 8-Leads, Body 3x3mm, Pitch 0.65mm, IPC Low Density)
pins: 1 ISEN (in), 2 COMP, 3 FB (in), 4 AGND (power), 5 PGND (power), 6 DR (out), 7 FA/SYNC/SD (in), 8 VIN (power)

## LM3492MH/NOPB
designator U?
Two-Channel Individual Dimmable LED Driver with Boost Converter and Fast Current Regulator, 20 pin TSSOP EXP PAD; PartNumber: LM3492MH/NOPB; Manufacturer: National Semiconductor; PackageTopMarking: NSUZXYTT*LM3492*MH; PowerWise: Y; CompType: MiscPower; DatasheetVersion: Oct-2010; PackageVersion: revC, Jul-2006; PackageReference: MXA20A; PackageDescription: Molded TSSOP, Jedec, 6.5 x 4.4 x 0.9mm Body, 20 Lead, 0.65mm Pitch, Exposed Pad; RoHS: Y; PinCount: 20; High-Reliability: Y; Code_JEDEC: MO-153-ACT; ComponentLink1Description: Manufacturer URL; ComponentLink1URL: http://www.national.com/; ComponentLink2Description: LM3492 Datasheet; ComponentLink2URL: http://www.national.com/ds/LM/LM3492.pdf; ComponentLink3Description: LM3492 Web Page; ComponentLink3URL: http://www.national.com/pf/LM/LM3492.html; ComponentLink4Description: MXA20A Package Page; ComponentLink4URL: http://www.national.com/packaging/folders/mxa20a.html
footprint MXA20A_N (TSOP, 20-Leads, Body 6.5x4.4mm, Pitch 0.65mm, Thermal Pad, IPC Medium Density)
footprint MXA20A_L (TSOP, 20-Leads, Body 6.5x4.4mm, Pitch 0.65mm, Thermal Pad, IPC High Density)
footprint MXA20A_M (TSOP, 20-Leads, Body 6.5x4.4mm, Pitch 0.65mm, Thermal Pad, IPC Low Density)
pins: 1 EN (in), 2 VIN (in), 3 SW (oc), 4 SW (oc), 5 VOUT (in), 6 RT, 7 FB (in), 8 GND (power), 9 IOUT2 (in), 10 IOUT1 (in), 11 CDHC, 12 IREF, 13 COMM (io), 14 LGND (power), 15 DIM1/CLK (in), 16 DIM2 (in), 17 PGND (power), 18 PGND (power), 19 VCC (power), 20 ILIM (in), 21 DAP (power)

## LM3492MHX/NOPB
designator U?
Two-Channel Individual Dimmable LED Driver with Boost Converter and Fast Current Regulator, 20 pin TSSOP EXP PAD; PartNumber: LM3492MHX/NOPB; Manufacturer: National Semiconductor; PackageTopMarking: NSUZXYTT*LM3492*MH; PowerWise: Y; CompType: MiscPower; DatasheetVersion: Oct-2010; PackageVersion: revC, Jul-2006; PackageReference: MXA20A; PackageDescription: Molded TSSOP, Jedec, 6.5 x 4.4 x 0.9mm Body, 20 Lead, 0.65mm Pitch, Exposed Pad; RoHS: Y; PinCount: 20; High-Reliability: Y; Code_JEDEC: MO-153-ACT; ComponentLink1Description: Manufacturer URL; ComponentLink1URL: http://www.national.com/; ComponentLink2Description: LM3492 Datasheet; ComponentLink2URL: http://www.national.com/ds/LM/LM3492.pdf; ComponentLink3Description: LM3492 Web Page; ComponentLink3URL: http://www.national.com/pf/LM/LM3492.html; ComponentLink4Description: MXA20A Package Page; ComponentLink4URL: http://www.national.com/packaging/folders/mxa20a.html
footprint MXA20A_N (TSOP, 20-Leads, Body 6.5x4.4mm, Pitch 0.65mm, Thermal Pad, IPC Medium Density)
footprint MXA20A_L (TSOP, 20-Leads, Body 6.5x4.4mm, Pitch 0.65mm, Thermal Pad, IPC High Density)
footprint MXA20A_M (TSOP, 20-Leads, Body 6.5x4.4mm, Pitch 0.65mm, Thermal Pad, IPC Low Density)
pins: 1 EN (in), 2 VIN (in), 3 SW (oc), 4 SW (oc), 5 VOUT (in), 6 RT, 7 FB (in), 8 GND (power), 9 IOUT2 (in), 10 IOUT1 (in), 11 CDHC, 12 IREF, 13 COMM (io), 14 LGND (power), 15 DIM1/CLK (in), 16 DIM2 (in), 17 PGND (power), 18 PGND (power), 19 VCC (power), 20 ILIM (in), 21 DAP (power)

## LM3492QMH/NOPB
designator U?
Two-Channel Individual Dimmable LED Driver with Boost Converter and Fast Current Regulator, AECQ 1, 20-pin TSSOP-EP, 73 Rail; PartNumber: LM3492QMH/NOPB; Manufacturer: National Semiconductor; PackageTopMarking: NSUZXYTT*LM3492*QMH; PowerWise: N; CompType: MiscPower; High-Reliability: Y; DatasheetVersion: Oct-2010; PackageVersion: revC, Jul-2006; PackageReference: MXA20A; PackageDescription: Molded TSSOP, Jedec, 6.5 x 4.4 x 0.9mm Body, 20 Lead, 0.65mm Pitch, Exposed Pad; RoHS: Y; PinCount: 20; Code_JEDEC: MO-153-ACT; ComponentLink1Description: Manufacturer URL; ComponentLink1URL: http://www.national.com/; ComponentLink2Description: LM3492 Datasheet; ComponentLink2URL: http://www.national.com/ds/LM/LM3492.pdf; ComponentLink3Description: LM3492 Web Page; ComponentLink3URL: http://www.national.com/pf/LM/LM3492.html; ComponentLink4Description: MXA20A Package Page; ComponentLink4URL: http://www.national.com/packaging/folders/mxa20a.html
footprint MXA20A_N (TSOP, 20-Leads, Body 6.5x4.4mm, Pitch 0.65mm, Thermal Pad, IPC Medium Density)
footprint MXA20A_L (TSOP, 20-Leads, Body 6.5x4.4mm, Pitch 0.65mm, Thermal Pad, IPC High Density)
footprint MXA20A_M (TSOP, 20-Leads, Body 6.5x4.4mm, Pitch 0.65mm, Thermal Pad, IPC Low Density)
pins: 1 EN (in), 2 VIN (in), 3 SW (oc), 4 SW (oc), 5 VOUT (in), 6 RT, 7 FB (in), 8 GND (power), 9 IOUT2 (in), 10 IOUT1 (in), 11 CDHC, 12 IREF, 13 COMM (io), 14 LGND (power), 15 DIM1/CLK (in), 16 DIM2 (in), 17 PGND (power), 18 PGND (power), 19 VCC (power), 20 ILIM (in), 21 DAP (power)

## LM3492QMHX/NOPB
designator U?
Two-Channel Individual Dimmable LED Driver with Boost Converter and Fast Current Regulator, AECQ 1, 20-pin TSSOP-EP, 2500 Reel; PartNumber: LM3492QMHX/NOPB; Manufacturer: National Semiconductor; PackageTopMarking: NSUZXYTT*LM3492*QMH; PowerWise: N; CompType: MiscPower; High-Reliability: Y; DatasheetVersion: Oct-2010; PackageVersion: revC, Jul-2006; PackageReference: MXA20A; PackageDescription: Molded TSSOP, Jedec, 6.5 x 4.4 x 0.9mm Body, 20 Lead, 0.65mm Pitch, Exposed Pad; RoHS: Y; PinCount: 20; Code_JEDEC: MO-153-ACT; ComponentLink1Description: Manufacturer URL; ComponentLink1URL: http://www.national.com/; ComponentLink2Description: LM3492 Datasheet; ComponentLink2URL: http://www.national.com/ds/LM/LM3492.pdf; ComponentLink3Description: LM3492 Web Page; ComponentLink3URL: http://www.national.com/pf/LM/LM3492.html; ComponentLink4Description: MXA20A Package Page; ComponentLink4URL: http://www.national.com/packaging/folders/mxa20a.html
footprint MXA20A_N (TSOP, 20-Leads, Body 6.5x4.4mm, Pitch 0.65mm, Thermal Pad, IPC Medium Density)
footprint MXA20A_L (TSOP, 20-Leads, Body 6.5x4.4mm, Pitch 0.65mm, Thermal Pad, IPC High Density)
footprint MXA20A_M (TSOP, 20-Leads, Body 6.5x4.4mm, Pitch 0.65mm, Thermal Pad, IPC Low Density)
pins: 1 EN (in), 2 VIN (in), 3 SW (oc), 4 SW (oc), 5 VOUT (in), 6 RT, 7 FB (in), 8 GND (power), 9 IOUT2 (in), 10 IOUT1 (in), 11 CDHC, 12 IREF, 13 COMM (io), 14 LGND (power), 15 DIM1/CLK (in), 16 DIM2 (in), 17 PGND (power), 18 PGND (power), 19 VCC (power), 20 ILIM (in), 21 DAP (power)

## LM3500TL-16/NOPB
designator U?
Synchronous Step-up DC/DC Converter for White LED Applications, 8-pin Micro SMD, Pb-Free; PartNumber: LM3500TL-16/NOPB; Manufacturer: National Semiconductor; PackageTopMarking: XVS*I 18; PowerWise: N; CompType: MiscPower; High-Reliability: Y; DatasheetVersion: Feb-2005; PackageVersion: revC, Jan-2004; PackageReference: TLA08SSA; PackageDescription: Thin Micro SMD, 8 Bump (Large), 0.5mm Pitch; RoHS: Y; PinCount: 8; Code_JEDEC: MO-211-DD; ComponentLink1Description: Manufacturer URL; ComponentLink1URL: http://www.national.com/; ComponentLink2Description: LM3500 Datasheet; ComponentLink2URL: http://www.national.com/ds/LM/LM3500.pdf; ComponentLink3Description: LM3500 Web Page; ComponentLink3URL: http://www.national.com/pf/LM/LM3500.html; ComponentLink4Description: TLA08SSA Package Page; ComponentLink4URL: http://www.national.com/packaging/folders/tla08ssa.html
footprint TLA08SSA (Micro SMD, 8-Leads, Body 1.92x1.92mm, Pitch 0.5mm, NSC Recommended)
pins: A1 AGND (power), A2 ~{SHDN} (in), A3 NC, B1 VIN (power), B3 FB (in), C1 VOUT (out), C2 VSW, C3 GND (power)

## LM3500TL-21/NOPB
designator U?
Synchronous Step-up DC/DC Converter for White LED Applications, 8-pin Micro SMD, Pb-Free; PartNumber: LM3500TL-21/NOPB; Manufacturer: National Semiconductor; PackageTopMarking: XVS*I 23; PowerWise: N; CompType: MiscPower; High-Reliability: Y; DatasheetVersion: Feb-2005; PackageVersion: revC, Jan-2004; PackageReference: TLA08SSA; PackageDescription: Thin Micro SMD, 8 Bump (Large), 0.5mm Pitch; RoHS: Y; PinCount: 8; Code_JEDEC: MO-211-DD; ComponentLink1Description: Manufacturer URL; ComponentLink1URL: http://www.national.com/; ComponentLink2Description: LM3500 Datasheet; ComponentLink2URL: http://www.national.com/ds/LM/LM3500.pdf; ComponentLink3Description: LM3500 Web Page; ComponentLink3URL: http://www.national.com/pf/LM/LM3500.html; ComponentLink4Description: TLA08SSA Package Page; ComponentLink4URL: http://www.national.com/packaging/folders/tla08ssa.html
footprint TLA08SSA (Micro SMD, 8-Leads, Body 1.92x1.92mm, Pitch 0.5mm, NSC Recommended)
pins: A1 AGND (power), A2 ~{SHDN} (in), A3 NC, B1 VIN (power), B3 FB (in), C1 VOUT (out), C2 VSW, C3 GND (power)

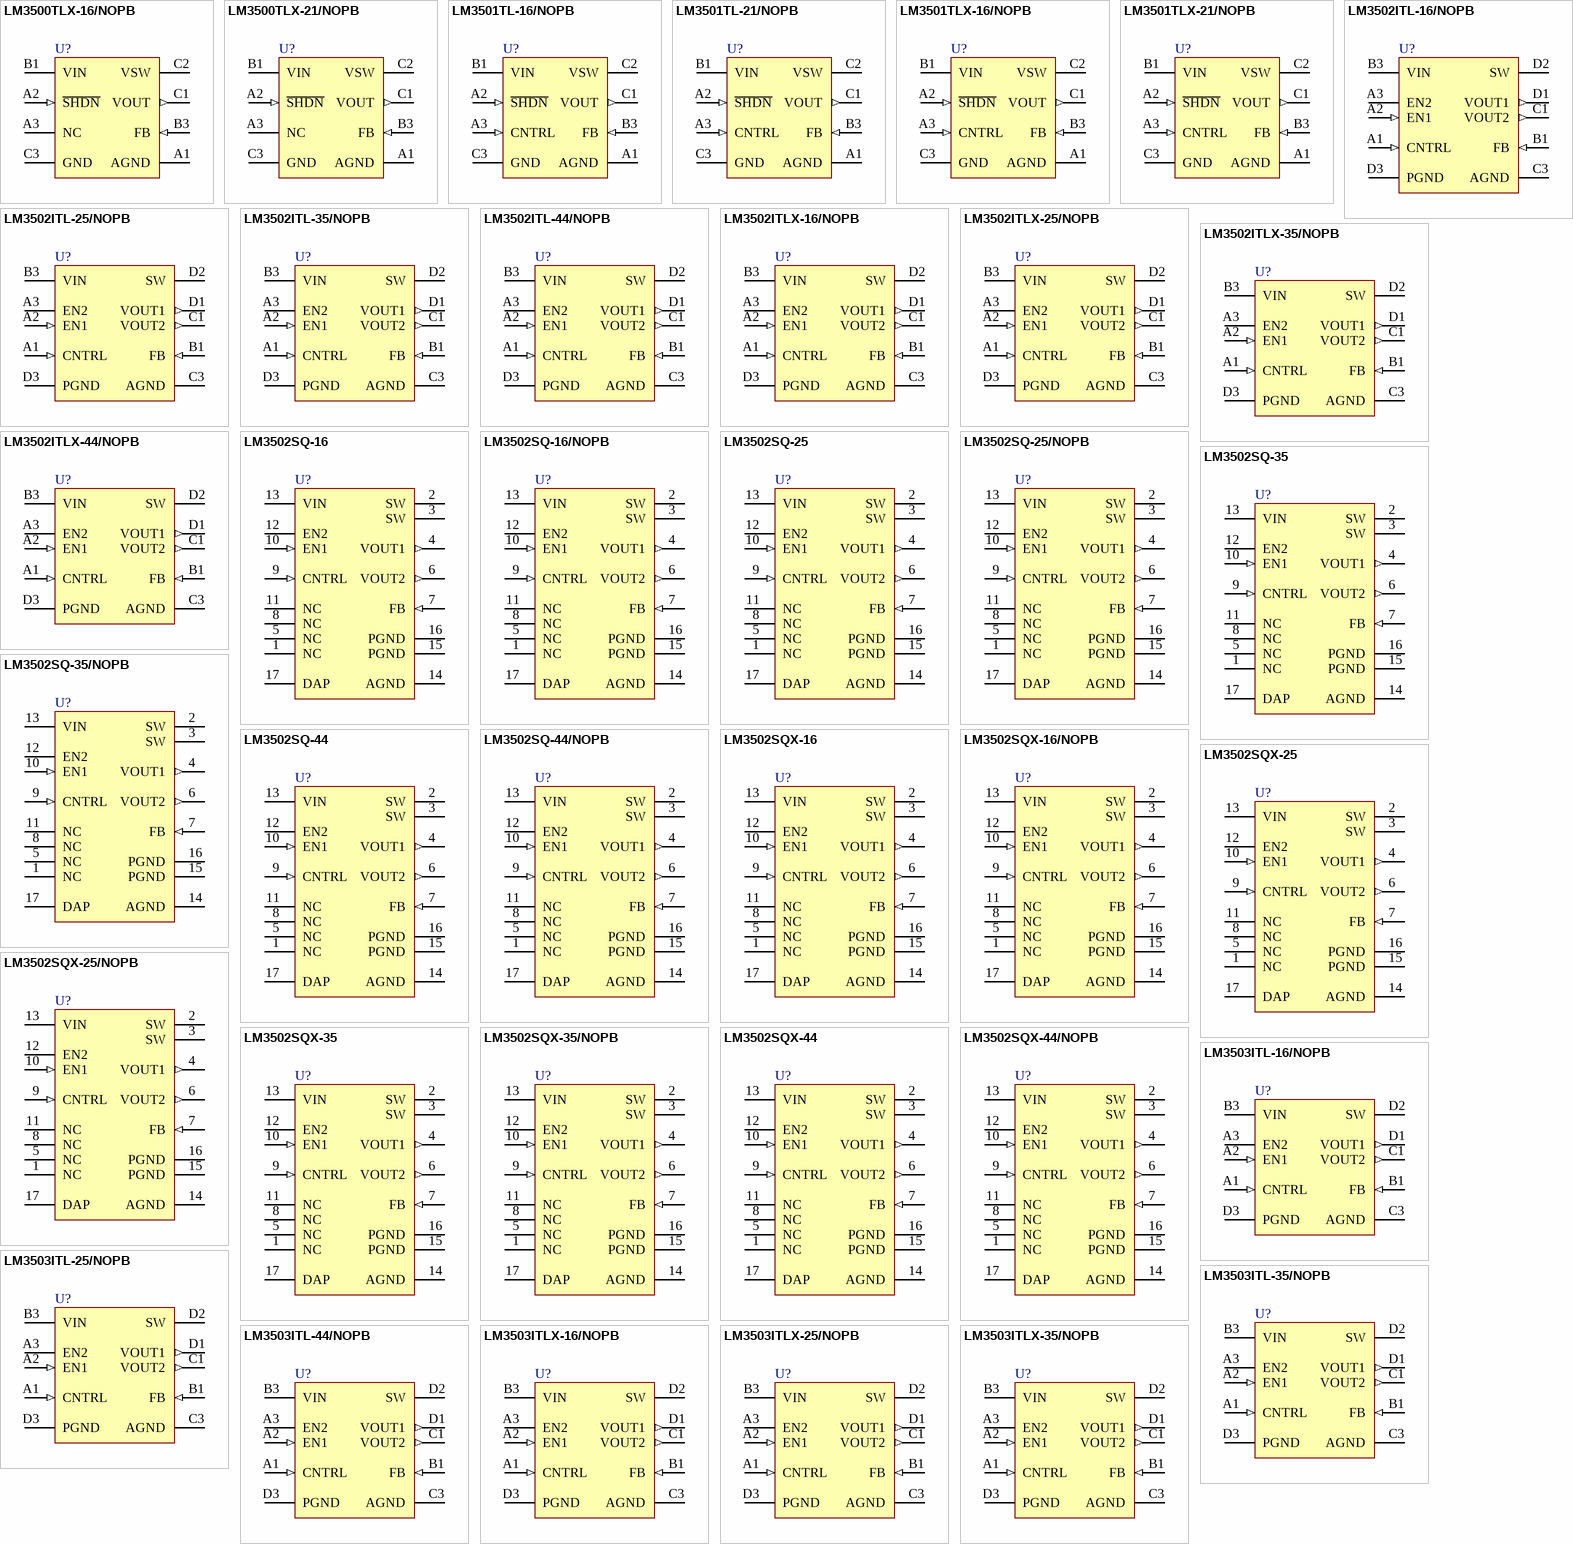
[diagram p15: symbols LM3500TLX-16/NOPB to LM3503ITLX-35/NOPB]

## LM3500TLX-16/NOPB
designator U?
Synchronous Step-up DC/DC Converter for White LED Applications, 8-pin Micro SMD, Pb-Free; PartNumber: LM3500TLX-16/NOPB; Manufacturer: National Semiconductor; PackageTopMarking: XVS*I 18; PowerWise: N; CompType: MiscPower; High-Reliability: Y; DatasheetVersion: Feb-2005; PackageVersion: revC, Jan-2004; PackageReference: TLA08SSA; PackageDescription: Thin Micro SMD, 8 Bump (Large), 0.5mm Pitch; RoHS: Y; PinCount: 8; Code_JEDEC: MO-211-DD; ComponentLink1Description: Manufacturer URL; ComponentLink1URL: http://www.national.com/; ComponentLink2Description: LM3500 Datasheet; ComponentLink2URL: http://www.national.com/ds/LM/LM3500.pdf; ComponentLink3Description: LM3500 Web Page; ComponentLink3URL: http://www.national.com/pf/LM/LM3500.html; ComponentLink4Description: TLA08SSA Package Page; ComponentLink4URL: http://www.national.com/packaging/folders/tla08ssa.html
footprint TLA08SSA (Micro SMD, 8-Leads, Body 1.92x1.92mm, Pitch 0.5mm, NSC Recommended)
pins: A1 AGND (power), A2 ~{SHDN} (in), A3 NC, B1 VIN (power), B3 FB (in), C1 VOUT (out), C2 VSW, C3 GND (power)